# EAGLE library part AVR128DB48-I/PT (library AVR128DB48-IPT)
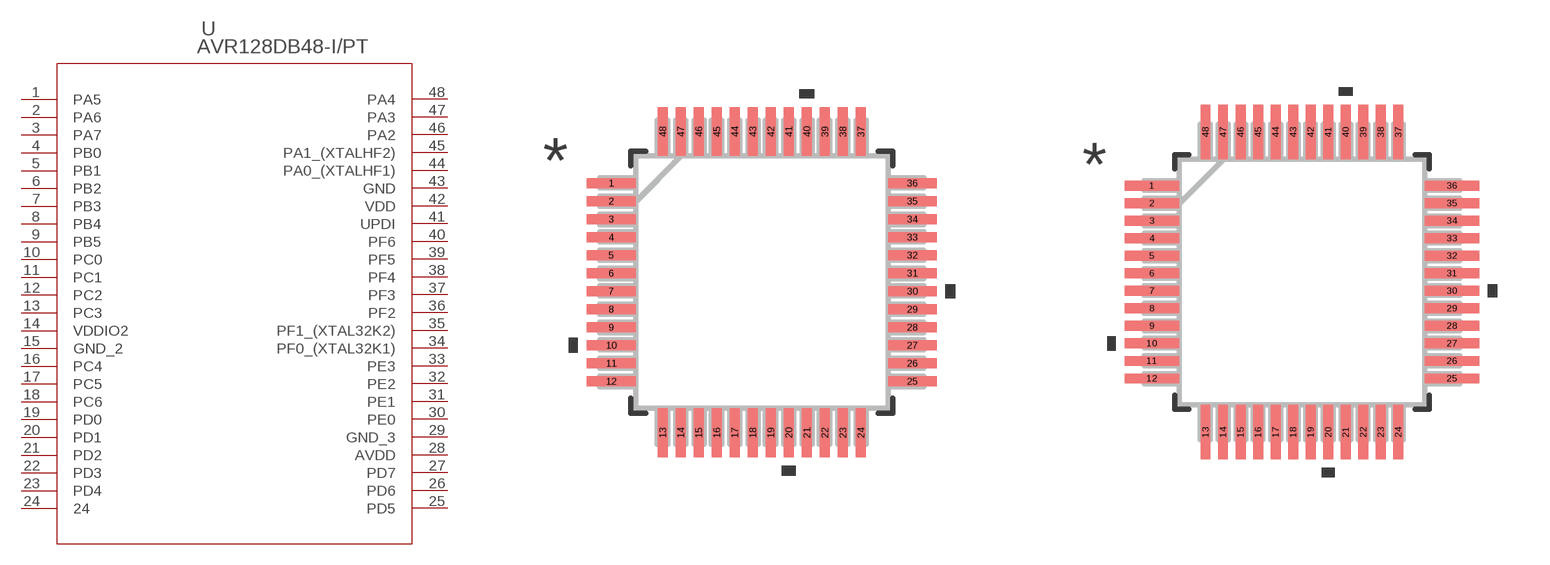
[diagram p0: symbol with the pads of TQFP48_PT_MCH; footprints TQFP48_PT_MCH, TQFP48_PT_MCH-M]

Designator prefix U

## AVR128DB48-I/PT (COPYRIGHT: Copyright (C) 2024 Ultra Librarian. All rights reserved.; MANUFACTURER_PART_NUMBER: AVR128DB48-I/PT; MFR_NAME: Microchip)  [TQFP48_PT_MCH]
1  PA5
2  PA6
3  PA7
4  PB0
5  PB1
6  PB2
7  PB3
8  PB4
9  PB5
10  PC0
11  PC1
12  PC2
13  PC3
14  VDDIO2  pwr
15  GND_2  pas
16  PC4
17  PC5
18  PC6
19  PD0
20  PD1
21  PD2
22  PD3
23  PD4
24  24
25  PD5
26  PD6
27  PD7
28  AVDD  pwr
29  GND_3  pas
30  PE0
31  PE1
32  PE2
33  PE3
34  PF0_(XTAL32K1)
35  PF1_(XTAL32K2)
36  PF2
37  PF3
38  PF4
39  PF5
40  PF6
41  UPDI
42  VDD  pwr
43  GND  pas
44  PA0_(XTALHF1)
45  PA1_(XTALHF2)
46  PA2
47  PA3
48  PA4

## AVR128DB48-I/PTTQFP48_PT_MCH-M (COPYRIGHT: Copyright (C) 2024 Ultra Librarian. All rights reserved.; MANUFACTURER_PART_NUMBER: AVR128DB48-I/PT; MFR_NAME: Microchip)  [TQFP48_PT_MCH-M]
Pads as for TQFP48_PT_MCH

## AVR128DB48-I/PTTQFP48_PT_MCH-L (COPYRIGHT: Copyright (C) 2024 Ultra Librarian. All rights reserved.; MANUFACTURER_PART_NUMBER: AVR128DB48-I/PT; MFR_NAME: Microchip)  [TQFP48_PT_MCH-L]
Pads as for TQFP48_PT_MCH

## Footprint TQFP48_PT_MCH (pad centres in mm)
smd 1.346 x 0.279: 1 -4.178,2.75; 2 -4.178,2.25; 3 -4.178,1.75; 4 -4.178,1.25; 5 -4.178,0.75; 6 -4.178,0.25; 7 -4.178,-0.25; 8 -4.178,-0.75; 9 -4.178,-1.25; 10 -4.178,-1.75; 11 -4.178,-2.25; 12 -4.178,-2.75; 25 4.178,-2.75; 26 4.178,-2.25; 27 4.178,-1.75; 28 4.178,-1.25; 29 4.178,-0.75; 30 4.178,-0.25; 31 4.178,0.25; 32 4.178,0.75; 33 4.178,1.25; 34 4.178,1.75; 35 4.178,2.25; 36 4.178,2.75
smd 0.279 x 1.346: 13 -2.75,-4.178; 14 -2.25,-4.178; 15 -1.75,-4.178; 16 -1.25,-4.178; 17 -0.75,-4.178; 18 -0.25,-4.178; 19 0.25,-4.178; 20 0.75,-4.178; 21 1.25,-4.178; 22 1.75,-4.178; 23 2.25,-4.178; 24 2.75,-4.178; 37 2.75,4.178; 38 2.25,4.178; 39 1.75,4.178; 40 1.25,4.178; 41 0.75,4.178; 42 0.25,4.178; 43 -0.25,4.178; 44 -0.75,4.178; 45 -1.25,4.178; 46 -1.75,4.178; 47 -2.25,4.178; 48 -2.75,4.178

## Footprint TQFP48_PT_MCH-M (pad centres in mm)
smd 1.549 x 0.279: 1 -4.28,2.75; 2 -4.28,2.25; 3 -4.28,1.75; 4 -4.28,1.25; 5 -4.28,0.75; 6 -4.28,0.25; 7 -4.28,-0.25; 8 -4.28,-0.75; 9 -4.28,-1.25; 10 -4.28,-1.75; 11 -4.28,-2.25; 12 -4.28,-2.75; 25 4.28,-2.75; 26 4.28,-2.25; 27 4.28,-1.75; 28 4.28,-1.25; 29 4.28,-0.75; 30 4.28,-0.25; 31 4.28,0.25; 32 4.28,0.75; 33 4.28,1.25; 34 4.28,1.75; 35 4.28,2.25; 36 4.28,2.75
smd 0.279 x 1.549: 13 -2.75,-4.28; 14 -2.25,-4.28; 15 -1.75,-4.28; 16 -1.25,-4.28; 17 -0.75,-4.28; 18 -0.25,-4.28; 19 0.25,-4.28; 20 0.75,-4.28; 21 1.25,-4.28; 22 1.75,-4.28; 23 2.25,-4.28; 24 2.75,-4.28; 37 2.75,4.28; 38 2.25,4.28; 39 1.75,4.28; 40 1.25,4.28; 41 0.75,4.28; 42 0.25,4.28; 43 -0.25,4.28; 44 -0.75,4.28; 45 -1.25,4.28; 46 -1.75,4.28; 47 -2.25,4.28; 48 -2.75,4.28

## Footprint TQFP48_PT_MCH-L (pad centres in mm)
smd 1.143 x 0.229: 1 -4.077,2.75; 2 -4.077,2.25; 3 -4.077,1.75; 4 -4.077,1.25; 5 -4.077,0.75; 6 -4.077,0.25; 7 -4.077,-0.25; 8 -4.077,-0.75; 9 -4.077,-1.25; 10 -4.077,-1.75; 11 -4.077,-2.25; 12 -4.077,-2.75; 25 4.077,-2.75; 26 4.077,-2.25; 27 4.077,-1.75; 28 4.077,-1.25; 29 4.077,-0.75; 30 4.077,-0.25; 31 4.077,0.25; 32 4.077,0.75; 33 4.077,1.25; 34 4.077,1.75; 35 4.077,2.25; 36 4.077,2.75
smd 0.229 x 1.143: 13 -2.75,-4.077; 14 -2.25,-4.077; 15 -1.75,-4.077; 16 -1.25,-4.077; 17 -0.75,-4.077; 18 -0.25,-4.077; 19 0.25,-4.077; 20 0.75,-4.077; 21 1.25,-4.077; 22 1.75,-4.077; 23 2.25,-4.077; 24 2.75,-4.077; 37 2.75,4.077; 38 2.25,4.077; 39 1.75,4.077; 40 1.25,4.077; 41 0.75,4.077; 42 0.25,4.077; 43 -0.25,4.077; 44 -0.75,4.077; 45 -1.25,4.077; 46 -1.75,4.077; 47 -2.25,4.077; 48 -2.75,4.077